# Altium integrated library F51L-1A7H1-11010.IntLib: 1 symbol
Pins are listed as number, name and electrical type; pins without a type are passive.

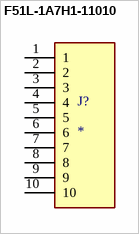
[diagram p0: symbol F51L-1A7H1-11010]

## F51L-1A7H1-11010
designator J?
Flex Connector, 1.00mm Pitch, Height 2.55mm, Right angle, Flip type, ZIF, 10 position , With MYLAR; MF: Amphenol ICC (FCI); MP: F51L-1A7H1-11010; Package: None; Price: None; Check_prices: https://www.snapeda.com/parts/F51L-1A7H1-11010/Amphenol+FCI/view-part/?ref=eda; Value: *; SnapEDA_Link: https://www.snapeda.com/parts/F51L-1A7H1-11010/Amphenol+FCI/view-part/?ref=snap; Availability: In Stock; Purchase-URL: https://pricing.snapeda.com/search?q=F51L-1A7H1-11010&ref=eda
footprint AMPHENOL_F51L-1A7H1-11010
pins: 1, 2, 3, 4, 5, 6, 7, 8, 9, 10